# Altium footprint library Clock Oscillator - ECS, ECS-2325, ECS-2333.PcbLib: 1 footprints
Each footprint in its own frame and in the unit in brackets; x right, y up, seen from the top. Pads: shape width x height; smd on the part's side, far side on the other; paste and mask are expansions set on the pad; w line width, h text height; cw(c..) or ccw(c..) is an arc to the next point about the centre after c.
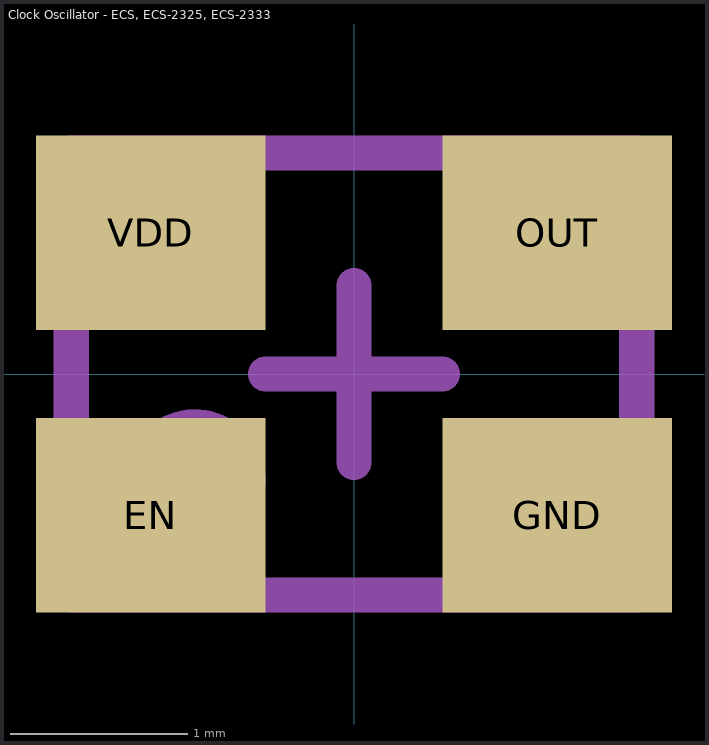
[diagram p0: the footprint, top view; thin cyan lines are the x and y axes]

## Clock Oscillator - ECS, ECS-2325, ECS-2333 [mm] "Clock Oscillator - ECS, ECS-2325, ECS-2333"
height 1
pads (4):
  rect 1.3x1.1 smd mask+0.05: EN(-1.15,-0.8) GND(1.15,-0.8) OUT(1.15,0.8) VDD(-1.15,0.8)
Top Assembly:
  circle w0.4: c-0.9,-0.6 r0.2
  lines w0.2: -1.6,-1.25 1.6,-1.25 1.6,1.25 -1.6,1.25 -1.6,-1.25
Top Designator:
  text ".Designator" at -2.75,-2.875 h2
Top Component Center:
  lines w0.2: -0.5,0 0.5,0 ; 0,-0.5 0,0.5
3D body "Clock Oscillator - ECS, ECS-2325, ECS-2333.step": height 1, standoff 0, extent -1.6,-1.25 1.6,1.25